# Altium integrated library TI_Logic_Specialty_Logic.IntLib: 2504 symbols (part 6 of 81)
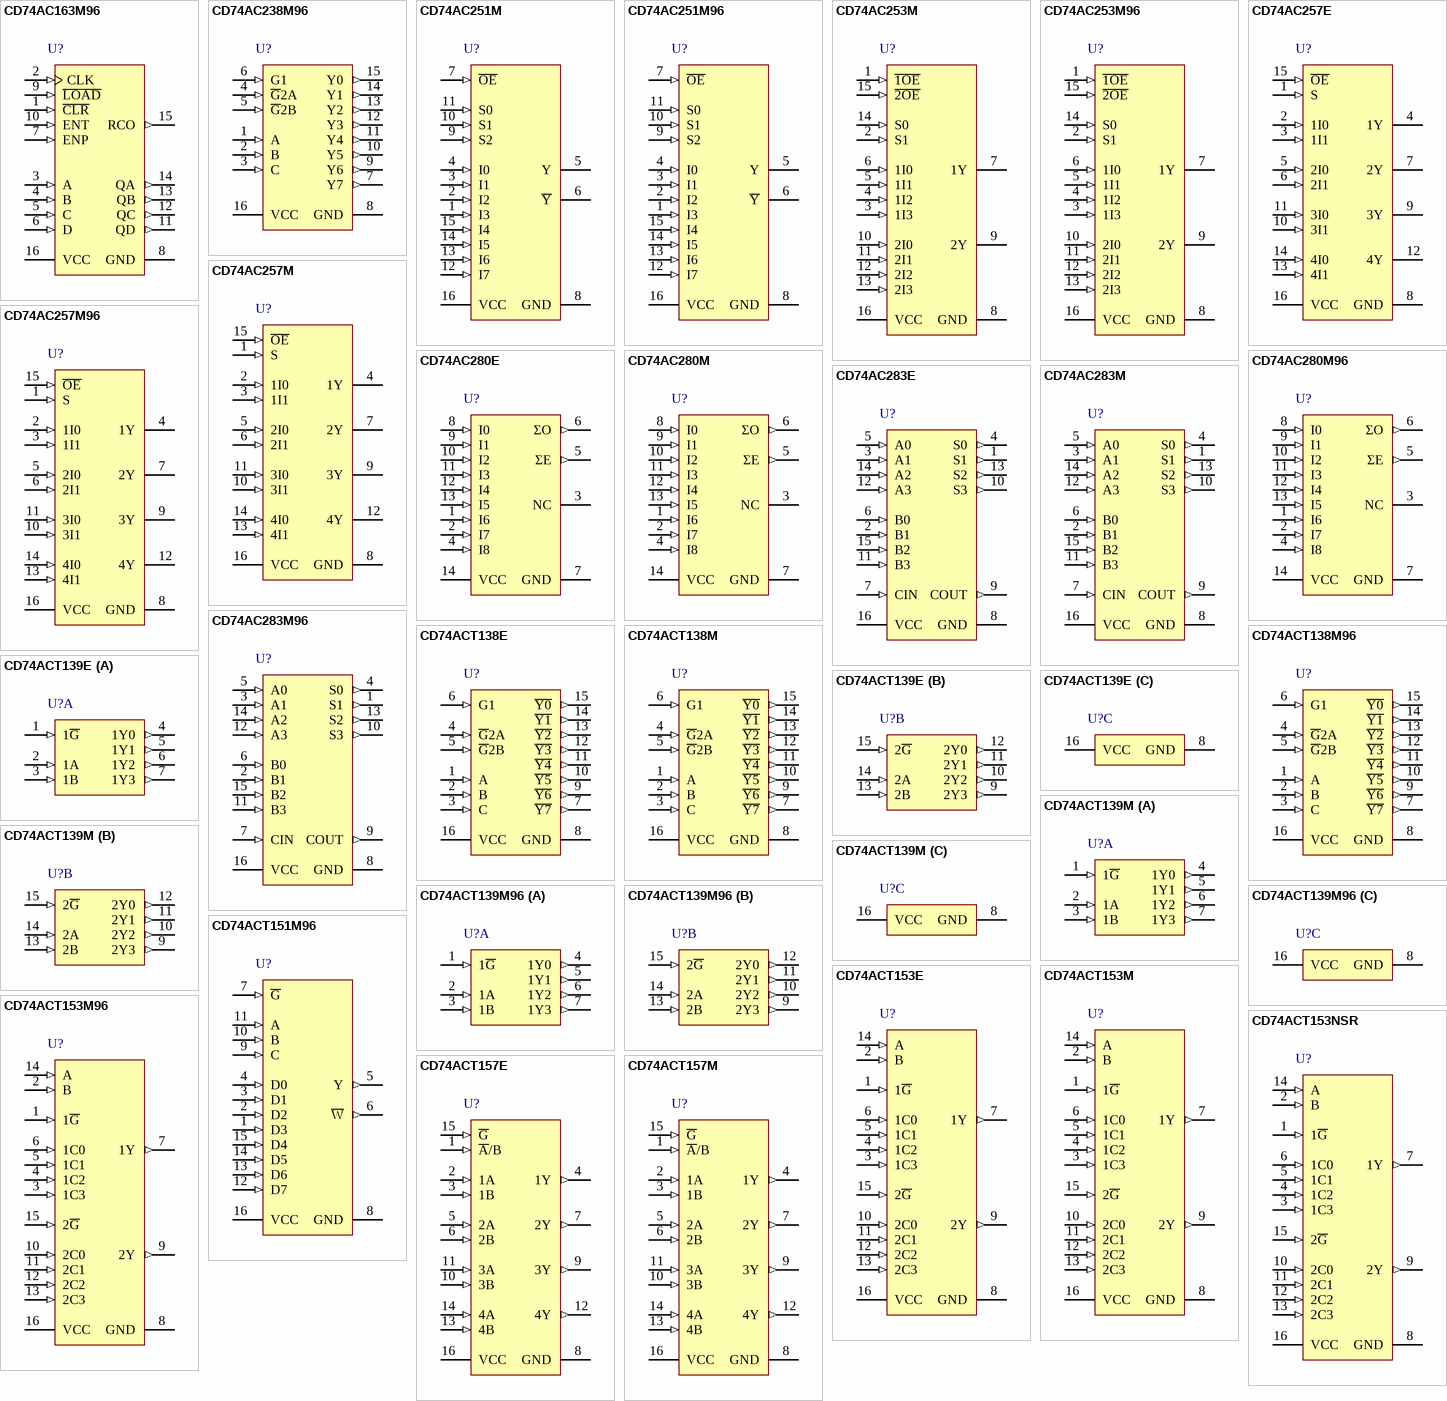
[diagram p109: symbols CD74AC163M96 to CD74ACT157M]

## CD74AC257M
designator U?
Quad 2-Input Non-Inverting Multiplexers with 3-State Outputs, D0016A, TUBE; Generic Part Number: CD74AC257; Manufacturer: Texas Instruments; PartNumber: CD74AC257M; VCC(Min)(V): 1.5; VCC(Max)(V): 5.5; Output Type: CMOS; Function: Encoder/Multiplexer; ICC @ Nom Voltage(Max)(mA): 0.08; Input Type: LVTTL/CMOS; Bits(#): 2; F @ Nom Voltage(Max)(Mhz): 100; Configuration: 2：1; Channels(#): 4; Rating: Catalog; Technology Family: AC; Voltage(Nom)(V): 1.5, 3.3,5; Schmitt Trigger: No; Output Drive (IOL/IOH)(Max)(mA): 24/-24; tpd @ Nom Voltage(Max)(ns): 106,11.8,8.5; DatasheetVersion: SCHS248A; PackageReference: D0016A; Supplier 1: Mouser; Supplier Part Number 1: 595-CD74AC257M; Supplier 2: Digi-Key; Supplier Part Number 2: 296-4243-5-ND; Operating Temperature Range(C): -55 to 125; Type: 3-State Output; Code_JEDEC: MS-012 variation AC; ComponentLink1Description: Manufacturer URL; ComponentLink1URL: http://www.ti.com/; ComponentLink2Description: Datasheet; ComponentLink2URL: http://www.ti.com/lit/ds/symlink/cd74ac257.pdf; ComponentLink3Description: Package Specification; ComponentLink3URL: http://www.ti.com/lit/ml/mpds178g/mpds178g.pdf
footprint D0016A_N (SOIC, 16-Leads, Body 10x4mm, Pitch 1.27mm, IPC Medium Density)
footprint D0016A_M (SOIC, 16-Leads, Body 10x4mm, Pitch 1.27mm, IPC Low Density)
footprint D0016A_L (SOIC, 16-Leads, Body 10x4mm, Pitch 1.27mm, IPC High Density)
pins: 1 S (in), 2 1I0 (in), 3 1I1 (in), 4 1Y (hiz), 5 2I0 (in), 6 2I1 (in), 7 2Y (hiz), 8 GND (power), 9 3Y (hiz), 10 3I1 (in), 11 3I0 (in), 12 4Y (hiz), 13 4I1 (in), 14 4I0 (in), 15 ~{OE} (in), 16 VCC (power)

## CD74AC257M96
designator U?
Quad 2-Input Non-Inverting Multiplexers with 3-State Outputs, D0016A, LARGE T&R; Generic Part Number: CD74AC257; Manufacturer: Texas Instruments; PartNumber: CD74AC257M96; VCC(Min)(V): 1.5; VCC(Max)(V): 5.5; Output Type: CMOS; Function: Encoder/Multiplexer; ICC @ Nom Voltage(Max)(mA): 0.08; Input Type: LVTTL/CMOS; Bits(#): 2; F @ Nom Voltage(Max)(Mhz): 100; Configuration: 2：1; Channels(#): 4; Rating: Catalog; Technology Family: AC; Voltage(Nom)(V): 1.5, 3.3,5; Schmitt Trigger: No; Output Drive (IOL/IOH)(Max)(mA): 24/-24; tpd @ Nom Voltage(Max)(ns): 106,11.8,8.5; DatasheetVersion: SCHS248A; PackageReference: D0016A; Supplier 1: Mouser; Supplier Part Number 1: 595-CD74AC257M96; Supplier 2: Digi-Key; Supplier Part Number 2: 296-31545-2-ND; Supplier 3: Digi-Key; Supplier Part Number 3: 296-31545-1-ND; Supplier 4: Digi-Key; Supplier Part Number 4: 296-31545-6-ND; Operating Temperature Range(C): -55 to 125; Type: 3-State Output; Code_JEDEC: MS-012 variation AC; ComponentLink1Description: Manufacturer URL; ComponentLink1URL: http://www.ti.com/; ComponentLink2Description: Datasheet; ComponentLink2URL: http://www.ti.com/lit/ds/symlink/cd74ac257.pdf; ComponentLink3Description: Package Specification; ComponentLink3URL: http://www.ti.com/lit/ml/mpds178g/mpds178g.pdf
footprint D0016A_N (SOIC, 16-Leads, Body 10x4mm, Pitch 1.27mm, IPC Medium Density)
footprint D0016A_M (SOIC, 16-Leads, Body 10x4mm, Pitch 1.27mm, IPC Low Density)
footprint D0016A_L (SOIC, 16-Leads, Body 10x4mm, Pitch 1.27mm, IPC High Density)
pins: 1 S (in), 2 1I0 (in), 3 1I1 (in), 4 1Y (hiz), 5 2I0 (in), 6 2I1 (in), 7 2Y (hiz), 8 GND (power), 9 3Y (hiz), 10 3I1 (in), 11 3I0 (in), 12 4Y (hiz), 13 4I1 (in), 14 4I0 (in), 15 ~{OE} (in), 16 VCC (power)

## CD74AC280E
designator U?
9-Bit Odd/Even Parity Generator/Checker, N0014A, TUBE; Generic Part Number: CD74AC280; Manufacturer: Texas Instruments; PartNumber: CD74AC280E; VCC(Min)(V): 1.5; VCC(Max)(V): 5.5; Inputs: 9; ICC @ Nom Voltage(Max)(mA): 0.08; Bits(#): 2; F @ Nom Voltage(Max)(Mhz): 100; Rating: Military; Technology Family: AC; Voltage(Nom)(V): 5; Output Drive (IOL/IOH)(Max)(mA): 75/-75; tpd @ Nom Voltage(Max)(ns): 19.1; DatasheetVersion: SCHS250A; PackageReference: N0014A; Supplier 1: Mouser; Supplier Part Number 1: 595-CD74AC280E; Supplier 2: Digi-Key; Supplier Part Number 2: 296-4245-5-ND; Function: Parity; Operating Temperature Range(C): -55 to 125; Type: Other; Code_JEDEC: MS-001; ComponentLink1Description: Manufacturer URL; ComponentLink1URL: http://www.ti.com/; ComponentLink2Description: Datasheet; ComponentLink2URL: http://www.ti.com/lit/ds/symlink/cd74ac280.pdf; ComponentLink3Description: Package Specification; ComponentLink3URL: http://www.ti.com/lit/ml/mpdi002c/mpdi002c.pdf
footprint N0014A (DIP, 14-Leads, Body 19.7x6.6mm, Pitch 2.54mm)
pins: 1 I6 (in), 2 I7 (in), 3 NC, 4 I8 (in), 5 ΣE (out), 6 ΣO (out), 7 GND (power), 8 I0 (in), 9 I1 (in), 10 I2 (in), 11 I3 (in), 12 I4 (in), 13 I5 (in), 14 VCC (power)

## CD74AC280M
designator U?
9-Bit Odd/Even Parity Generator/Checker, D0014A, TUBE; Generic Part Number: CD74AC280; Manufacturer: Texas Instruments; PartNumber: CD74AC280M; VCC(Min)(V): 1.5; VCC(Max)(V): 5.5; Inputs: 9; ICC @ Nom Voltage(Max)(mA): 0.08; Bits(#): 2; F @ Nom Voltage(Max)(Mhz): 100; Rating: Military; Technology Family: AC; Voltage(Nom)(V): 5; Output Drive (IOL/IOH)(Max)(mA): 75/-75; tpd @ Nom Voltage(Max)(ns): 19.1; DatasheetVersion: SCHS250A; PackageReference: D0014A; Supplier 1: Mouser; Supplier Part Number 1: 595-CD74AC280M; Supplier 2: Digi-Key; Supplier Part Number 2: 296-32962-5-ND; Function: Parity; Operating Temperature Range(C): -55 to 125; Type: Other; Code_JEDEC: MS-012; ComponentLink1Description: Manufacturer URL; ComponentLink1URL: http://www.ti.com/; ComponentLink2Description: Datasheet; ComponentLink2URL: http://www.ti.com/lit/ds/symlink/cd74ac280.pdf; ComponentLink3Description: Package Specification; ComponentLink3URL: http://www.ti.com/lit/ml/mpds177g/mpds177g.pdf
footprint D0014A_N (SOIC, 14-Leads, Body 8.75x4mm, Pitch 1.27mm, IPC Medium Density)
footprint D0014A_M (SOIC, 14-Leads, Body 8.75x4mm, Pitch 1.27mm, IPC Low Density)
footprint D0014A_L (SOIC, 14-Leads, Body 8.75x4mm, Pitch 1.27mm, IPC High Density)
pins: 1 I6 (in), 2 I7 (in), 3 NC, 4 I8 (in), 5 ΣE (out), 6 ΣO (out), 7 GND (power), 8 I0 (in), 9 I1 (in), 10 I2 (in), 11 I3 (in), 12 I4 (in), 13 I5 (in), 14 VCC (power)

## CD74AC280M96
designator U?
9-Bit Odd/Even Parity Generator/Checker, D0014A, LARGE T&R; Generic Part Number: CD74AC280; Manufacturer: Texas Instruments; PartNumber: CD74AC280M96; VCC(Min)(V): 1.5; VCC(Max)(V): 5.5; Inputs: 9; ICC @ Nom Voltage(Max)(mA): 0.08; Bits(#): 2; F @ Nom Voltage(Max)(Mhz): 100; Rating: Military; Technology Family: AC; Voltage(Nom)(V): 5; Output Drive (IOL/IOH)(Max)(mA): 75/-75; tpd @ Nom Voltage(Max)(ns): 19.1; DatasheetVersion: SCHS250A; PackageReference: D0014A; Supplier 1: Mouser; Supplier Part Number 1: 595-CD74AC280M96; Supplier 2: Digi-Key; Supplier Part Number 2: 296-4246-2-ND; Supplier 3: Digi-Key; Supplier Part Number 3: 296-4246-1-ND; Supplier 4: Digi-Key; Supplier Part Number 4: 296-4246-6-ND; Function: Parity; Operating Temperature Range(C): -55 to 125; Type: Other; Code_JEDEC: MS-012; ComponentLink1Description: Manufacturer URL; ComponentLink1URL: http://www.ti.com/; ComponentLink2Description: Datasheet; ComponentLink2URL: http://www.ti.com/lit/ds/symlink/cd74ac280.pdf; ComponentLink3Description: Package Specification; ComponentLink3URL: http://www.ti.com/lit/ml/mpds177g/mpds177g.pdf
footprint D0014A_N (SOIC, 14-Leads, Body 8.75x4mm, Pitch 1.27mm, IPC Medium Density)
footprint D0014A_M (SOIC, 14-Leads, Body 8.75x4mm, Pitch 1.27mm, IPC Low Density)
footprint D0014A_L (SOIC, 14-Leads, Body 8.75x4mm, Pitch 1.27mm, IPC High Density)
pins: 1 I6 (in), 2 I7 (in), 3 NC, 4 I8 (in), 5 ΣE (out), 6 ΣO (out), 7 GND (power), 8 I0 (in), 9 I1 (in), 10 I2 (in), 11 I3 (in), 12 I4 (in), 13 I5 (in), 14 VCC (power)

## CD74AC283E
designator U?
4-Bit Binary Full Adder with Fast Carry, N0016A, TUBE; Generic Part Number: CD74AC283; Manufacturer: Texas Instruments; PartNumber: CD74AC283E; VCC(Min)(V): 1.5; VCC(Max)(V): 5.5; Output Type: CMOS; Inputs: 9; Function: Arithmetic; ICC @ Nom Voltage(Max)(mA): 0.08; Input Type: LVTTL/CMOS; Bits(#): 4; F @ Nom Voltage(Max)(Mhz): 100; Rating: Catalog; Technology Family: AC; Voltage(Nom)(V): 3.3,5; Schmitt Trigger: No; Output Drive (IOL/IOH)(Max)(mA): 75/-75; tpd @ Nom Voltage(Max)(ns): 16; DatasheetVersion: SCHS251D; PackageReference: N0016A; Supplier 1: Mouser; Supplier Part Number 1: 595-CD74AC283E; Supplier 2: Digi-Key; Supplier Part Number 2: 296-32963-5-ND; Operating Temperature Range(C): -55 to 125; Type: Binary; Code_JEDEC: MS-001; ComponentLink1Description: Manufacturer URL; ComponentLink1URL: http://www.ti.com/; ComponentLink2Description: Datasheet; ComponentLink2URL: http://www.ti.com/lit/ds/symlink/cd74ac283.pdf; ComponentLink3Description: Package Specification; ComponentLink3URL: http://www.ti.com/lit/ml/mpdi002c/mpdi002c.pdf
footprint N0016A (DIP, 16-Leads, Body 19.7x6.6mm, Pitch 2.54mm)
pins: 1 S1 (out), 2 B1 (in), 3 A1 (in), 4 S0 (out), 5 A0 (in), 6 B0 (in), 7 CIN (in), 8 GND (power), 9 COUT (out), 10 S3 (out), 11 B3 (in), 12 A3 (in), 13 S2 (out), 14 A2 (in), 15 B2 (in), 16 VCC (power)

## CD74AC283M
designator U?
4-Bit Binary Full Adder with Fast Carry, D0016A, TUBE; Generic Part Number: CD74AC283; Manufacturer: Texas Instruments; PartNumber: CD74AC283M; VCC(Min)(V): 1.5; VCC(Max)(V): 5.5; Output Type: CMOS; Inputs: 9; Function: Arithmetic; ICC @ Nom Voltage(Max)(mA): 0.08; Input Type: LVTTL/CMOS; Bits(#): 4; F @ Nom Voltage(Max)(Mhz): 100; Rating: Catalog; Technology Family: AC; Voltage(Nom)(V): 3.3,5; Schmitt Trigger: No; Output Drive (IOL/IOH)(Max)(mA): 75/-75; tpd @ Nom Voltage(Max)(ns): 16; DatasheetVersion: SCHS251D; PackageReference: D0016A; Supplier 1: Mouser; Supplier Part Number 1: 595-CD74AC283M; Supplier 2: Digi-Key; Supplier Part Number 2: 296-32964-5-ND; Operating Temperature Range(C): -55 to 125; Type: Binary; Code_JEDEC: MS-012 variation AC; ComponentLink1Description: Manufacturer URL; ComponentLink1URL: http://www.ti.com/; ComponentLink2Description: Datasheet; ComponentLink2URL: http://www.ti.com/lit/ds/symlink/cd74ac283.pdf; ComponentLink3Description: Package Specification; ComponentLink3URL: http://www.ti.com/lit/ml/mpds178g/mpds178g.pdf
footprint D0016A_N (SOIC, 16-Leads, Body 10x4mm, Pitch 1.27mm, IPC Medium Density)
footprint D0016A_M (SOIC, 16-Leads, Body 10x4mm, Pitch 1.27mm, IPC Low Density)
footprint D0016A_L (SOIC, 16-Leads, Body 10x4mm, Pitch 1.27mm, IPC High Density)
pins: 1 S1 (out), 2 B1 (in), 3 A1 (in), 4 S0 (out), 5 A0 (in), 6 B0 (in), 7 CIN (in), 8 GND (power), 9 COUT (out), 10 S3 (out), 11 B3 (in), 12 A3 (in), 13 S2 (out), 14 A2 (in), 15 B2 (in), 16 VCC (power)

## CD74AC283M96
designator U?
4-Bit Binary Full Adder with Fast Carry, D0016A, LARGE T&R; Generic Part Number: CD74AC283; Manufacturer: Texas Instruments; PartNumber: CD74AC283M96; VCC(Min)(V): 1.5; VCC(Max)(V): 5.5; Output Type: CMOS; Inputs: 9; Function: Arithmetic; ICC @ Nom Voltage(Max)(mA): 0.08; Input Type: LVTTL/CMOS; Bits(#): 4; F @ Nom Voltage(Max)(Mhz): 100; Rating: Catalog; Technology Family: AC; Voltage(Nom)(V): 3.3,5; Schmitt Trigger: No; Output Drive (IOL/IOH)(Max)(mA): 75/-75; tpd @ Nom Voltage(Max)(ns): 16; DatasheetVersion: SCHS251D; PackageReference: D0016A; Supplier 1: Mouser; Supplier Part Number 1: 595-CD74AC283M96; Supplier 2: Digi-Key; Supplier Part Number 2: CD74AC283M96-ND; Operating Temperature Range(C): -55 to 125; Type: Binary; Code_JEDEC: MS-012 variation AC; ComponentLink1Description: Manufacturer URL; ComponentLink1URL: http://www.ti.com/; ComponentLink2Description: Datasheet; ComponentLink2URL: http://www.ti.com/lit/ds/symlink/cd74ac283.pdf; ComponentLink3Description: Package Specification; ComponentLink3URL: http://www.ti.com/lit/ml/mpds178g/mpds178g.pdf
footprint D0016A_N (SOIC, 16-Leads, Body 10x4mm, Pitch 1.27mm, IPC Medium Density)
footprint D0016A_M (SOIC, 16-Leads, Body 10x4mm, Pitch 1.27mm, IPC Low Density)
footprint D0016A_L (SOIC, 16-Leads, Body 10x4mm, Pitch 1.27mm, IPC High Density)
pins: 1 S1 (out), 2 B1 (in), 3 A1 (in), 4 S0 (out), 5 A0 (in), 6 B0 (in), 7 CIN (in), 8 GND (power), 9 COUT (out), 10 S3 (out), 11 B3 (in), 12 A3 (in), 13 S2 (out), 14 A2 (in), 15 B2 (in), 16 VCC (power)

## CD74ACT138E
designator U?
3-Line to 8-Line Inverting Decoders/Demultiplexers, N0016A, TUBE; Generic Part Number: CD74ACT138; Manufacturer: Texas Instruments; PartNumber: CD74ACT138E; VCC(Min)(V): 4.5; VCC(Max)(V): 5.5; Output Type: CMOS; Function: Decoder/Demultiplexer; ICC @ Nom Voltage(Max)(mA): 0.08; Input Type: TTL; Bits(#): 8; F @ Nom Voltage(Max)(Mhz): 90; Configuration: 3：8; Channels(#): 1; Rating: Catalog; Technology Family: ACT; Voltage(Nom)(V): 5; Schmitt Trigger: No; Output Drive (IOL/IOH)(Max)(mA): 24/-24; tpd @ Nom Voltage(Max)(ns): 11; DatasheetVersion: SCHS329A; PackageReference: N0016A; Supplier 1: Mouser; Supplier Part Number 1: 595-CD74ACT138E; Supplier 2: Digi-Key; Supplier Part Number 2: 296-14490-5-ND; Operating Temperature Range(C): -55 to 125; Type: Standard; Code_JEDEC: MS-001; ComponentLink1Description: Manufacturer URL; ComponentLink1URL: http://www.ti.com/; ComponentLink2Description: Datasheet; ComponentLink2URL: http://www.ti.com/lit/ds/symlink/cd74act138.pdf; ComponentLink3Description: Package Specification; ComponentLink3URL: http://www.ti.com/lit/ml/mpdi002c/mpdi002c.pdf
footprint N0016A (DIP, 16-Leads, Body 19.7x6.6mm, Pitch 2.54mm)
pins: 1 A (in), 2 B (in), 3 C (in), 4 ~{G}2A (in), 5 ~{G}2B (in), 6 G1 (in), 7 ~{Y7} (out), 8 GND (power), 9 ~{Y6} (out), 10 ~{Y5} (out), 11 ~{Y4} (out), 12 ~{Y3} (out), 13 ~{Y2} (out), 14 ~{Y1} (out), 15 ~{Y0} (out), 16 VCC (power)

## CD74ACT138M
designator U?
3-Line to 8-Line Inverting Decoders/Demultiplexers, D0016A, TUBE; Generic Part Number: CD74ACT138; Manufacturer: Texas Instruments; PartNumber: CD74ACT138M; VCC(Min)(V): 4.5; VCC(Max)(V): 5.5; Output Type: CMOS; Function: Decoder/Demultiplexer; ICC @ Nom Voltage(Max)(mA): 0.08; Input Type: TTL; Bits(#): 8; F @ Nom Voltage(Max)(Mhz): 90; Configuration: 3：8; Channels(#): 1; Rating: Catalog; Technology Family: ACT; Voltage(Nom)(V): 5; Schmitt Trigger: No; Output Drive (IOL/IOH)(Max)(mA): 24/-24; tpd @ Nom Voltage(Max)(ns): 11; DatasheetVersion: SCHS329A; PackageReference: D0016A; Supplier 1: Mouser; Supplier Part Number 1: 595-CD74ACT138M; Supplier 2: Digi-Key; Supplier Part Number 2: 296-4255-5-ND; Operating Temperature Range(C): -55 to 125; Type: Standard; Code_JEDEC: MS-012 variation AC; ComponentLink1Description: Manufacturer URL; ComponentLink1URL: http://www.ti.com/; ComponentLink2Description: Datasheet; ComponentLink2URL: http://www.ti.com/lit/ds/symlink/cd74act138.pdf; ComponentLink3Description: Package Specification; ComponentLink3URL: http://www.ti.com/lit/ml/mpds178g/mpds178g.pdf
footprint D0016A_N (SOIC, 16-Leads, Body 10x4mm, Pitch 1.27mm, IPC Medium Density)
footprint D0016A_M (SOIC, 16-Leads, Body 10x4mm, Pitch 1.27mm, IPC Low Density)
footprint D0016A_L (SOIC, 16-Leads, Body 10x4mm, Pitch 1.27mm, IPC High Density)
pins: 1 A (in), 2 B (in), 3 C (in), 4 ~{G}2A (in), 5 ~{G}2B (in), 6 G1 (in), 7 ~{Y7} (out), 8 GND (power), 9 ~{Y6} (out), 10 ~{Y5} (out), 11 ~{Y4} (out), 12 ~{Y3} (out), 13 ~{Y2} (out), 14 ~{Y1} (out), 15 ~{Y0} (out), 16 VCC (power)

## CD74ACT138M96
designator U?
3-Line to 8-Line Inverting Decoders/Demultiplexers, D0016A, LARGE T&R; Generic Part Number: CD74ACT138; Manufacturer: Texas Instruments; PartNumber: CD74ACT138M96; VCC(Min)(V): 4.5; VCC(Max)(V): 5.5; Output Type: CMOS; Function: Decoder/Demultiplexer; ICC @ Nom Voltage(Max)(mA): 0.08; Input Type: TTL; Bits(#): 8; F @ Nom Voltage(Max)(Mhz): 90; Configuration: 3：8; Channels(#): 1; Rating: Catalog; Technology Family: ACT; Voltage(Nom)(V): 5; Schmitt Trigger: No; Output Drive (IOL/IOH)(Max)(mA): 24/-24; tpd @ Nom Voltage(Max)(ns): 11; DatasheetVersion: SCHS329A; PackageReference: D0016A; Supplier 1: Mouser; Supplier Part Number 1: 595-CD74ACT138M96; Supplier 2: Digi-Key; Supplier Part Number 2: 296-14491-2-ND; Supplier 3: Digi-Key; Supplier Part Number 3: 296-14491-1-ND; Supplier 4: Digi-Key; Supplier Part Number 4: 296-14491-6-ND; Operating Temperature Range(C): -55 to 125; Type: Standard; Code_JEDEC: MS-012 variation AC; ComponentLink1Description: Manufacturer URL; ComponentLink1URL: http://www.ti.com/; ComponentLink2Description: Datasheet; ComponentLink2URL: http://www.ti.com/lit/ds/symlink/cd74act138.pdf; ComponentLink3Description: Package Specification; ComponentLink3URL: http://www.ti.com/lit/ml/mpds178g/mpds178g.pdf
footprint D0016A_N (SOIC, 16-Leads, Body 10x4mm, Pitch 1.27mm, IPC Medium Density)
footprint D0016A_M (SOIC, 16-Leads, Body 10x4mm, Pitch 1.27mm, IPC Low Density)
footprint D0016A_L (SOIC, 16-Leads, Body 10x4mm, Pitch 1.27mm, IPC High Density)
pins: 1 A (in), 2 B (in), 3 C (in), 4 ~{G}2A (in), 5 ~{G}2B (in), 6 G1 (in), 7 ~{Y7} (out), 8 GND (power), 9 ~{Y6} (out), 10 ~{Y5} (out), 11 ~{Y4} (out), 12 ~{Y3} (out), 13 ~{Y2} (out), 14 ~{Y1} (out), 15 ~{Y0} (out), 16 VCC (power)

## CD74ACT139E
designator U?
Dual 2-to-4 Line Decoder/Demultiplexer, N0016A, TUBE; Generic Part Number: CD74ACT139; Manufacturer: Texas Instruments; PartNumber: CD74ACT139E; VCC(Min)(V): 4.5; VCC(Max)(V): 5.5; ICC @ Nom Voltage(Max)(mA): 0.08; F @ Nom Voltage(Max)(Mhz): 90; Configuration: 2：4; Channels(#): 2; Rating: Military; Technology Family: ACT; Voltage(Nom)(V): 5; Schmitt Trigger: No; Output Drive (IOL/IOH)(Max)(mA): 24/-24; tpd @ Nom Voltage(Max)(ns): 10.5; DatasheetVersion: SCHS337; PackageReference: N0016A; Supplier 1: Mouser; Supplier Part Number 1: 595-CD74ACT139E; Supplier 2: Digi-Key; Supplier Part Number 2: 296-4256-5-ND; Function: Decoder/Demultiplexer; Operating Temperature Range(C): -55 to 125; Type: Standard; Code_JEDEC: MS-001; ComponentLink1Description: Manufacturer URL; ComponentLink1URL: http://www.ti.com/; ComponentLink2Description: Datasheet; ComponentLink2URL: http://www.ti.com/lit/ds/symlink/cd74act139.pdf; ComponentLink3Description: Package Specification; ComponentLink3URL: http://www.ti.com/lit/ml/mpdi002c/mpdi002c.pdf
footprint N0016A (DIP, 16-Leads, Body 19.7x6.6mm, Pitch 2.54mm)
part A pins: 1 1~{G} (in), 2 1A (in), 3 1B (in), 4 1Y0 (out), 5 1Y1 (out), 6 1Y2 (out), 7 1Y3 (out)
part B pins: 9 2Y3 (out), 10 2Y2 (out), 11 2Y1 (out), 12 2Y0 (out), 13 2B (in), 14 2A (in), 15 2~{G} (in)
part C pins: 8 GND (power), 16 VCC (power)

## CD74ACT139M
designator U?
Dual 2-to-4 Line Decoder/Demultiplexer, D0016A, TUBE; Generic Part Number: CD74ACT139; Manufacturer: Texas Instruments; PartNumber: CD74ACT139M; VCC(Min)(V): 4.5; VCC(Max)(V): 5.5; ICC @ Nom Voltage(Max)(mA): 0.08; F @ Nom Voltage(Max)(Mhz): 90; Configuration: 2：4; Channels(#): 2; Rating: Military; Technology Family: ACT; Voltage(Nom)(V): 5; Schmitt Trigger: No; Output Drive (IOL/IOH)(Max)(mA): 24/-24; tpd @ Nom Voltage(Max)(ns): 10.5; DatasheetVersion: SCHS337; PackageReference: D0016A; Supplier 1: Mouser; Supplier Part Number 1: 595-CD74ACT139M; Supplier 2: Digi-Key; Supplier Part Number 2: 296-4257-5-ND; Function: Decoder/Demultiplexer; Operating Temperature Range(C): -55 to 125; Type: Standard; Code_JEDEC: MS-012 variation AC; ComponentLink1Description: Manufacturer URL; ComponentLink1URL: http://www.ti.com/; ComponentLink2Description: Datasheet; ComponentLink2URL: http://www.ti.com/lit/ds/symlink/cd74act139.pdf; ComponentLink3Description: Package Specification; ComponentLink3URL: http://www.ti.com/lit/ml/mpds178g/mpds178g.pdf
footprint D0016A_N (SOIC, 16-Leads, Body 10x4mm, Pitch 1.27mm, IPC Medium Density)
footprint D0016A_M (SOIC, 16-Leads, Body 10x4mm, Pitch 1.27mm, IPC Low Density)
footprint D0016A_L (SOIC, 16-Leads, Body 10x4mm, Pitch 1.27mm, IPC High Density)
part A pins: 1 1~{G} (in), 2 1A (in), 3 1B (in), 4 1Y0 (out), 5 1Y1 (out), 6 1Y2 (out), 7 1Y3 (out)
part B pins: 9 2Y3 (out), 10 2Y2 (out), 11 2Y1 (out), 12 2Y0 (out), 13 2B (in), 14 2A (in), 15 2~{G} (in)
part C pins: 8 GND (power), 16 VCC (power)

## CD74ACT139M96
designator U?
Dual 2-to-4 Line Decoder/Demultiplexer, D0016A, LARGE T&R; Generic Part Number: CD74ACT139; Manufacturer: Texas Instruments; PartNumber: CD74ACT139M96; VCC(Min)(V): 4.5; VCC(Max)(V): 5.5; ICC @ Nom Voltage(Max)(mA): 0.08; F @ Nom Voltage(Max)(Mhz): 90; Configuration: 2：4; Channels(#): 2; Rating: Military; Technology Family: ACT; Voltage(Nom)(V): 5; Schmitt Trigger: No; Output Drive (IOL/IOH)(Max)(mA): 24/-24; tpd @ Nom Voltage(Max)(ns): 10.5; DatasheetVersion: SCHS337; PackageReference: D0016A; Supplier 1: Mouser; Supplier Part Number 1: 595-CD74ACT139M96; Supplier 2: Digi-Key; Supplier Part Number 2: 296-31550-2-ND; Supplier 3: Digi-Key; Supplier Part Number 3: 296-31550-1-ND; Supplier 4: Digi-Key; Supplier Part Number 4: 296-31550-6-ND; Function: Decoder/Demultiplexer; Operating Temperature Range(C): -55 to 125; Type: Standard; Code_JEDEC: MS-012 variation AC; ComponentLink1Description: Manufacturer URL; ComponentLink1URL: http://www.ti.com/; ComponentLink2Description: Datasheet; ComponentLink2URL: http://www.ti.com/lit/ds/symlink/cd74act139.pdf; ComponentLink3Description: Package Specification; ComponentLink3URL: http://www.ti.com/lit/ml/mpds178g/mpds178g.pdf
footprint D0016A_N (SOIC, 16-Leads, Body 10x4mm, Pitch 1.27mm, IPC Medium Density)
footprint D0016A_M (SOIC, 16-Leads, Body 10x4mm, Pitch 1.27mm, IPC Low Density)
footprint D0016A_L (SOIC, 16-Leads, Body 10x4mm, Pitch 1.27mm, IPC High Density)
part A pins: 1 1~{G} (in), 2 1A (in), 3 1B (in), 4 1Y0 (out), 5 1Y1 (out), 6 1Y2 (out), 7 1Y3 (out)
part B pins: 9 2Y3 (out), 10 2Y2 (out), 11 2Y1 (out), 12 2Y0 (out), 13 2B (in), 14 2A (in), 15 2~{G} (in)
part C pins: 8 GND (power), 16 VCC (power)

## CD74ACT151M96
designator U?
8-Input Multiplexer, D0016A, LARGE T&R; Generic Part Number: CD74ACT151; Manufacturer: Texas Instruments; PartNumber: CD74ACT151M96; VCC(Min)(V): 4.5; VCC(Max)(V): 5.5; Output Type: CMOS; Function: Encoder/Multiplexer; ICC @ Nom Voltage(Max)(mA): 0.08; Input Type: TTL; Bits(#): 8; F @ Nom Voltage(Max)(Mhz): 90; Configuration: 8：1; Channels(#): 1; Rating: Catalog; Technology Family: ACT; Voltage(Nom)(V): 5; Schmitt Trigger: No; Output Drive (IOL/IOH)(Max)(mA): 24/-24; tpd @ Nom Voltage(Max)(ns): 14.1; DatasheetVersion: SCHS338; PackageReference: D0016A; Supplier 1: Mouser; Supplier Part Number 1: 595-CD74ACT151M96; Supplier 2: Digi-Key; Supplier Part Number 2: 296-12766-2-ND; Supplier 3: Digi-Key; Supplier Part Number 3: 296-12766-1-ND; Supplier 4: Digi-Key; Supplier Part Number 4: 296-12766-6-ND; Operating Temperature Range(C): -55 to 125; Type: Standard; Code_JEDEC: MS-012 variation AC; ComponentLink1Description: Manufacturer URL; ComponentLink1URL: http://www.ti.com/; ComponentLink2Description: Datasheet; ComponentLink2URL: http://www.ti.com/lit/ds/symlink/cd74act151.pdf; ComponentLink3Description: Package Specification; ComponentLink3URL: http://www.ti.com/lit/ml/mpds178g/mpds178g.pdf
footprint D0016A_N (SOIC, 16-Leads, Body 10x4mm, Pitch 1.27mm, IPC Medium Density)
footprint D0016A_M (SOIC, 16-Leads, Body 10x4mm, Pitch 1.27mm, IPC Low Density)
footprint D0016A_L (SOIC, 16-Leads, Body 10x4mm, Pitch 1.27mm, IPC High Density)
pins: 1 D3 (in), 2 D2 (in), 3 D1 (in), 4 D0 (in), 5 Y (out), 6 ~{W} (out), 7 ~{G} (in), 8 GND (power), 9 C (in), 10 B (in), 11 A (in), 12 D7 (in), 13 D6 (in), 14 D5 (in), 15 D4 (in), 16 VCC (power)

## CD74ACT153E
designator U?
Dual 4-Input Multiplexers, N0016A, TUBE; Generic Part Number: CD74ACT153; Manufacturer: Texas Instruments; PartNumber: CD74ACT153E; VCC(Min)(V): 4.5; VCC(Max)(V): 5.5; Output Type: CMOS; Function: Encoder/Multiplexer; ICC @ Nom Voltage(Max)(mA): 0.08; Input Type: TTL; F @ Nom Voltage(Max)(Mhz): 90; Configuration: 4：1; Channels(#): `; Rating: Catalog; Technology Family: ACT; Voltage(Nom)(V): 5; Schmitt Trigger: No; Output Drive (IOL/IOH)(Max)(mA): 24/-24; tpd @ Nom Voltage(Max)(ns): 20; DatasheetVersion: SCHS339; PackageReference: N0016A; Supplier 1: Mouser; Supplier Part Number 1: 595-CD74ACT153E; Supplier 2: Digi-Key; Supplier Part Number 2: 296-4258-5-ND; Operating Temperature Range(C): -55 to 125; Type: Standard; Code_JEDEC: MS-001; ComponentLink1Description: Manufacturer URL; ComponentLink1URL: http://www.ti.com/; ComponentLink2Description: Datasheet; ComponentLink2URL: http://www.ti.com/lit/ds/symlink/cd74act153.pdf; ComponentLink3Description: Package Specification; ComponentLink3URL: http://www.ti.com/lit/ml/mpdi002c/mpdi002c.pdf
footprint N0016A (DIP, 16-Leads, Body 19.7x6.6mm, Pitch 2.54mm)
pins: 1 1~{G} (in), 2 B (in), 3 1C3 (in), 4 1C2 (in), 5 1C1 (in), 6 1C0 (in), 7 1Y (out), 8 GND (power), 9 2Y (out), 10 2C0 (in), 11 2C1 (in), 12 2C2 (in), 13 2C3 (in), 14 A (in), 15 2~{G} (in), 16 VCC (power)

## CD74ACT153M
designator U?
Dual 4-Input Multiplexers, D0016A, TUBE; Generic Part Number: CD74ACT153; Manufacturer: Texas Instruments; PartNumber: CD74ACT153M; VCC(Min)(V): 4.5; VCC(Max)(V): 5.5; Output Type: CMOS; Function: Encoder/Multiplexer; ICC @ Nom Voltage(Max)(mA): 0.08; Input Type: TTL; F @ Nom Voltage(Max)(Mhz): 90; Configuration: 4：1; Channels(#): `; Rating: Catalog; Technology Family: ACT; Voltage(Nom)(V): 5; Schmitt Trigger: No; Output Drive (IOL/IOH)(Max)(mA): 24/-24; tpd @ Nom Voltage(Max)(ns): 20; DatasheetVersion: SCHS339; PackageReference: D0016A; Supplier 1: Mouser; Supplier Part Number 1: 595-CD74ACT153M; Supplier 2: Digi-Key; Supplier Part Number 2: 296-4259-5-ND; Operating Temperature Range(C): -55 to 125; Type: Standard; Code_JEDEC: MS-012 variation AC; ComponentLink1Description: Manufacturer URL; ComponentLink1URL: http://www.ti.com/; ComponentLink2Description: Datasheet; ComponentLink2URL: http://www.ti.com/lit/ds/symlink/cd74act153.pdf; ComponentLink3Description: Package Specification; ComponentLink3URL: http://www.ti.com/lit/ml/mpds178g/mpds178g.pdf
footprint D0016A_N (SOIC, 16-Leads, Body 10x4mm, Pitch 1.27mm, IPC Medium Density)
footprint D0016A_M (SOIC, 16-Leads, Body 10x4mm, Pitch 1.27mm, IPC Low Density)
footprint D0016A_L (SOIC, 16-Leads, Body 10x4mm, Pitch 1.27mm, IPC High Density)
pins: 1 1~{G} (in), 2 B (in), 3 1C3 (in), 4 1C2 (in), 5 1C1 (in), 6 1C0 (in), 7 1Y (out), 8 GND (power), 9 2Y (out), 10 2C0 (in), 11 2C1 (in), 12 2C2 (in), 13 2C3 (in), 14 A (in), 15 2~{G} (in), 16 VCC (power)

## CD74ACT153M96
designator U?
Dual 4-Input Multiplexers, D0016A, LARGE T&R; Generic Part Number: CD74ACT153; Manufacturer: Texas Instruments; PartNumber: CD74ACT153M96; VCC(Min)(V): 4.5; VCC(Max)(V): 5.5; Output Type: CMOS; Function: Encoder/Multiplexer; ICC @ Nom Voltage(Max)(mA): 0.08; Input Type: TTL; F @ Nom Voltage(Max)(Mhz): 90; Configuration: 4：1; Channels(#): `; Rating: Catalog; Technology Family: ACT; Voltage(Nom)(V): 5; Schmitt Trigger: No; Output Drive (IOL/IOH)(Max)(mA): 24/-24; tpd @ Nom Voltage(Max)(ns): 20; DatasheetVersion: SCHS339; PackageReference: D0016A; Supplier 1: Mouser; Supplier Part Number 1: 595-CD74ACT153M96; Supplier 2: Digi-Key; Supplier Part Number 2: CD74ACT153M96-ND; Operating Temperature Range(C): -55 to 125; Type: Standard; Code_JEDEC: MS-012 variation AC; ComponentLink1Description: Manufacturer URL; ComponentLink1URL: http://www.ti.com/; ComponentLink2Description: Datasheet; ComponentLink2URL: http://www.ti.com/lit/ds/symlink/cd74act153.pdf; ComponentLink3Description: Package Specification; ComponentLink3URL: http://www.ti.com/lit/ml/mpds178g/mpds178g.pdf
footprint D0016A_N (SOIC, 16-Leads, Body 10x4mm, Pitch 1.27mm, IPC Medium Density)
footprint D0016A_M (SOIC, 16-Leads, Body 10x4mm, Pitch 1.27mm, IPC Low Density)
footprint D0016A_L (SOIC, 16-Leads, Body 10x4mm, Pitch 1.27mm, IPC High Density)
pins: 1 1~{G} (in), 2 B (in), 3 1C3 (in), 4 1C2 (in), 5 1C1 (in), 6 1C0 (in), 7 1Y (out), 8 GND (power), 9 2Y (out), 10 2C0 (in), 11 2C1 (in), 12 2C2 (in), 13 2C3 (in), 14 A (in), 15 2~{G} (in), 16 VCC (power)

## CD74ACT153NSR
designator U?
Dual 4-Input Multiplexers, NS0016A, LARGE T&R; Generic Part Number: CD74ACT153; Manufacturer: Texas Instruments; PartNumber: CD74ACT153NSR; VCC(Min)(V): 4.5; VCC(Max)(V): 5.5; Output Type: CMOS; Function: Encoder/Multiplexer; ICC @ Nom Voltage(Max)(mA): 0.08; Input Type: TTL; F @ Nom Voltage(Max)(Mhz): 90; Configuration: 4：1; Channels(#): `; Rating: Catalog; Technology Family: ACT; Voltage(Nom)(V): 5; Schmitt Trigger: No; Output Drive (IOL/IOH)(Max)(mA): 24/-24; tpd @ Nom Voltage(Max)(ns): 20; DatasheetVersion: SCHS339; PackageReference: NS0016A; Supplier 1: Mouser; Supplier Part Number 1: 595-CD74ACT153NSR; Supplier 2: Digi-Key; Supplier Part Number 2: 296-18400-2-ND; Supplier 3: Digi-Key; Supplier Part Number 3: 296-18400-1-ND; Supplier 4: Digi-Key; Supplier Part Number 4: 296-18400-6-ND; Operating Temperature Range(C): -55 to 125; Type: Standard; ComponentLink1Description: Manufacturer URL; ComponentLink1URL: http://www.ti.com/; ComponentLink2Description: Datasheet; ComponentLink2URL: http://www.ti.com/lit/ds/symlink/cd74act153.pdf; ComponentLink3Description: Package Specification; ComponentLink3URL: http://www.ti.com/lit/ml/msop002a/msop002a.pdf
footprint NS0016A_N (SOIC,16-Leads,Body 10.5x5.6mm,Pitch 1.27mm,IPC Medium Density)
footprint NS0016A_M (SOIC,16-Leads,Body 10.5x5.6mm,Pitch 1.27mm,IPC Low Density)
footprint NS0016A_L (SOIC,16-Leads,Body 10.5x5.6mm,Pitch 1.27mm,IPC High Density)
pins: 1 1~{G} (in), 2 B (in), 3 1C3 (in), 4 1C2 (in), 5 1C1 (in), 6 1C0 (in), 7 1Y (out), 8 GND (power), 9 2Y (out), 10 2C0 (in), 11 2C1 (in), 12 2C2 (in), 13 2C3 (in), 14 A (in), 15 2~{G} (in), 16 VCC (power)

## CD74ACT157E
designator U?
Quad Non-Inverting 2-Input Multiplexers, N0016A, TUBE; Generic Part Number: CD74ACT157; Manufacturer: Texas Instruments; PartNumber: CD74ACT157E; VCC(Min)(V): 4.5; VCC(Max)(V): 5.5; Output Type: CMOS; Function: Encoder/Multiplexer; ICC @ Nom Voltage(Max)(mA): 0.08; Input Type: TTL; Bits(#): 2; F @ Nom Voltage(Max)(Mhz): 90; Configuration: 2：1; Channels(#): 4; Rating: Catalog; Technology Family: ACT; Voltage(Nom)(V): 5; Schmitt Trigger: No; Output Drive (IOL/IOH)(Max)(mA): 24/-24; tpd @ Nom Voltage(Max)(ns): 8.6; DatasheetVersion: SCHS340B; PackageReference: N0016A; Supplier 1: Mouser; Supplier Part Number 1: 595-CD74ACT157E; Supplier 2: Digi-Key; Supplier Part Number 2: 296-4260-5-ND; Operating Temperature Range(C): -55 to 125; Type: Standard; Code_JEDEC: MS-001; ComponentLink1Description: Manufacturer URL; ComponentLink1URL: http://www.ti.com/; ComponentLink2Description: Datasheet; ComponentLink2URL: http://www.ti.com/lit/ds/symlink/cd74act157.pdf; ComponentLink3Description: Package Specification; ComponentLink3URL: http://www.ti.com/lit/ml/mpdi002c/mpdi002c.pdf
footprint N0016A (DIP, 16-Leads, Body 19.7x6.6mm, Pitch 2.54mm)
pins: 1 ~{A}/B (in), 2 1A (in), 3 1B (in), 4 1Y (out), 5 2A (in), 6 2B (in), 7 2Y (out), 8 GND (power), 9 3Y (out), 10 3B (in), 11 3A (in), 12 4Y (out), 13 4B (in), 14 4A (in), 15 ~{G} (in), 16 VCC (power)

## CD74ACT157M
designator U?
Quad Non-Inverting 2-Input Multiplexers, D0016A, TUBE; Generic Part Number: CD74ACT157; Manufacturer: Texas Instruments; PartNumber: CD74ACT157M; VCC(Min)(V): 4.5; VCC(Max)(V): 5.5; Output Type: CMOS; Function: Encoder/Multiplexer; ICC @ Nom Voltage(Max)(mA): 0.08; Input Type: TTL; Bits(#): 2; F @ Nom Voltage(Max)(Mhz): 90; Configuration: 2：1; Channels(#): 4; Rating: Catalog; Technology Family: ACT; Voltage(Nom)(V): 5; Schmitt Trigger: No; Output Drive (IOL/IOH)(Max)(mA): 24/-24; tpd @ Nom Voltage(Max)(ns): 8.6; DatasheetVersion: SCHS340B; PackageReference: D0016A; Supplier 1: Mouser; Supplier Part Number 1: 595-CD74ACT157M; Supplier 2: Digi-Key; Supplier Part Number 2: 296-4261-5-ND; Operating Temperature Range(C): -55 to 125; Type: Standard; Code_JEDEC: MS-012 variation AC; ComponentLink1Description: Manufacturer URL; ComponentLink1URL: http://www.ti.com/; ComponentLink2Description: Datasheet; ComponentLink2URL: http://www.ti.com/lit/ds/symlink/cd74act157.pdf; ComponentLink3Description: Package Specification; ComponentLink3URL: http://www.ti.com/lit/ml/mpds178g/mpds178g.pdf
footprint D0016A_N (SOIC, 16-Leads, Body 10x4mm, Pitch 1.27mm, IPC Medium Density)
footprint D0016A_M (SOIC, 16-Leads, Body 10x4mm, Pitch 1.27mm, IPC Low Density)
footprint D0016A_L (SOIC, 16-Leads, Body 10x4mm, Pitch 1.27mm, IPC High Density)
pins: 1 ~{A}/B (in), 2 1A (in), 3 1B (in), 4 1Y (out), 5 2A (in), 6 2B (in), 7 2Y (out), 8 GND (power), 9 3Y (out), 10 3B (in), 11 3A (in), 12 4Y (out), 13 4B (in), 14 4A (in), 15 ~{G} (in), 16 VCC (power)

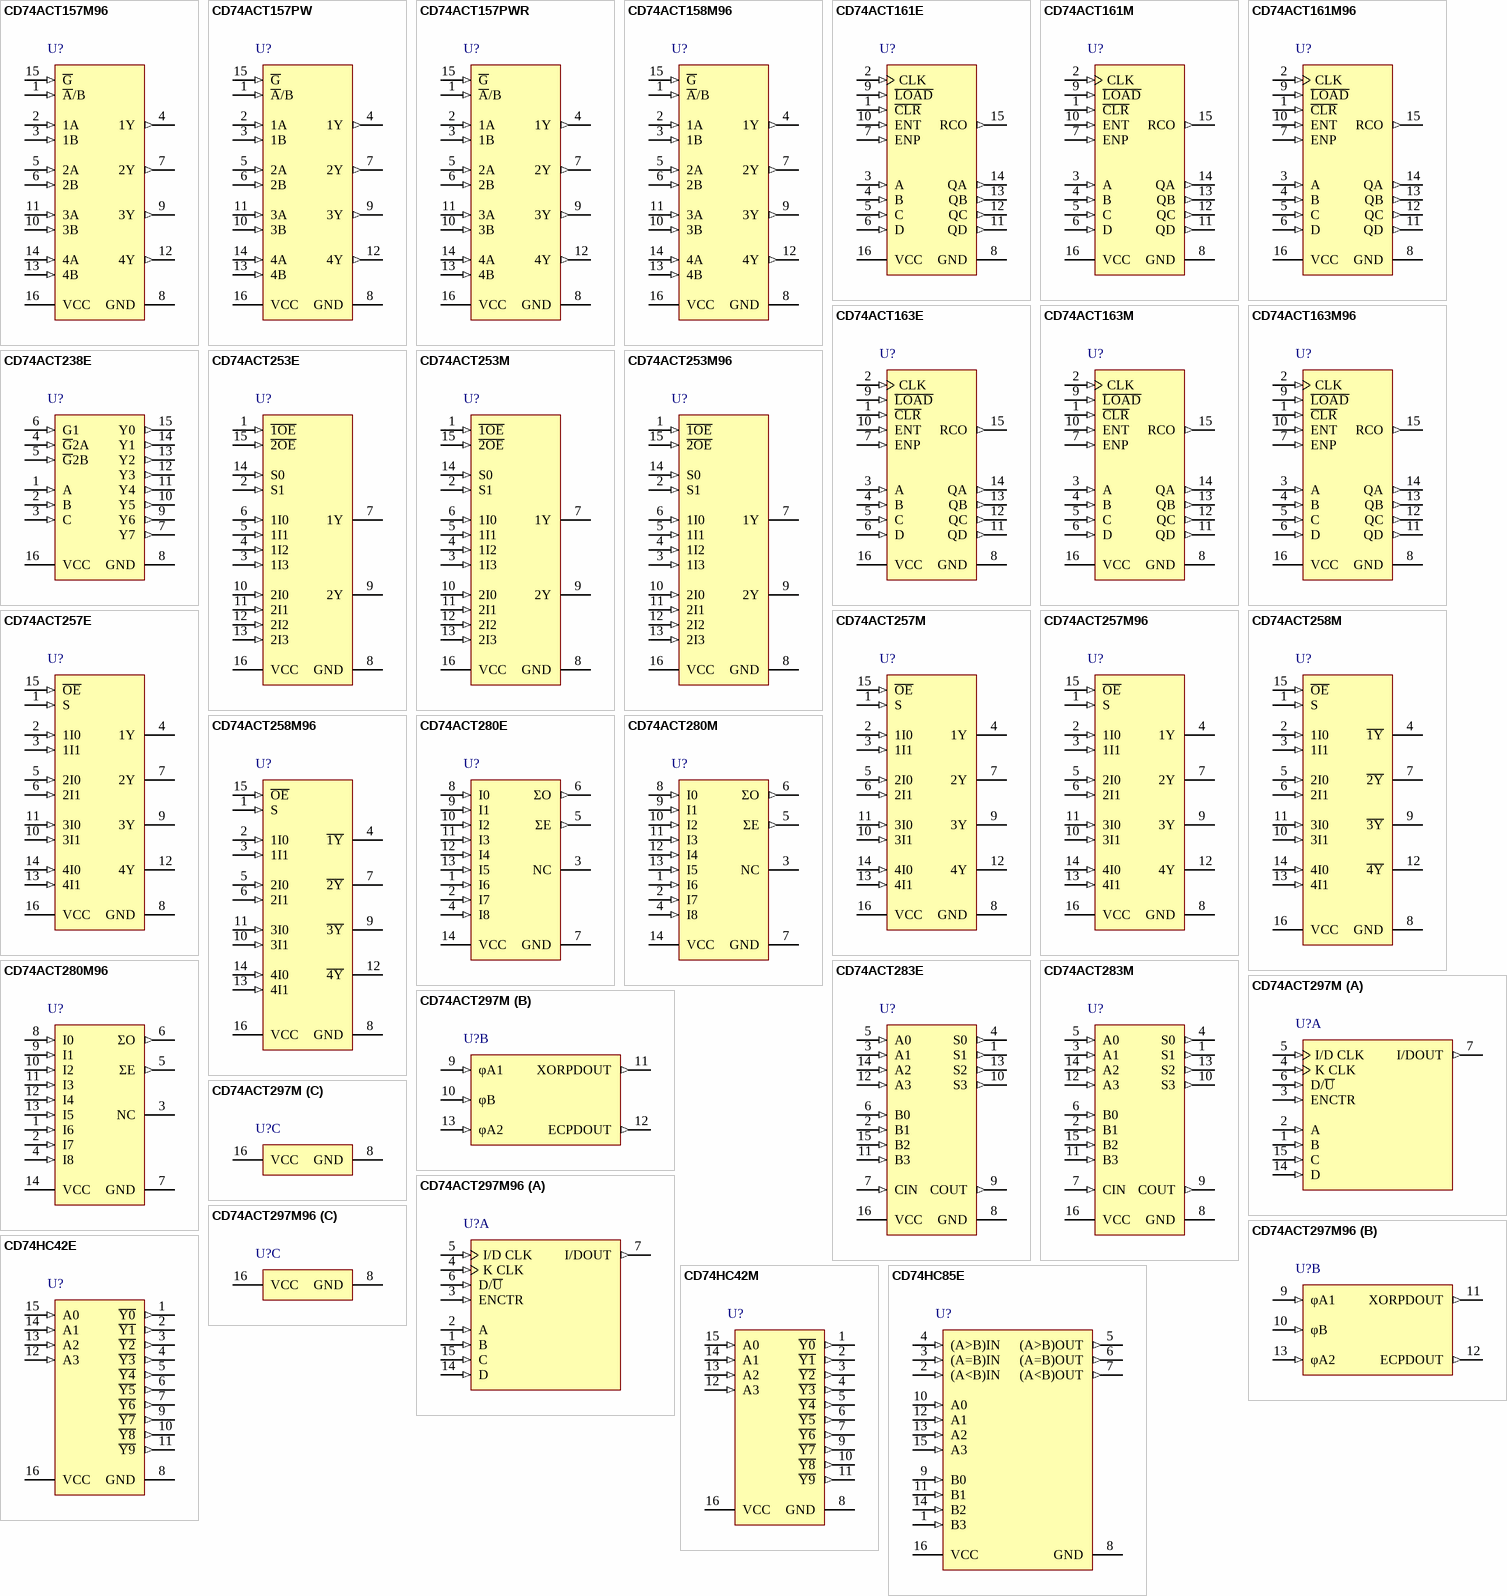
[diagram p8: symbols CD74ACT157M96 to CD74HC85E]

## CD74ACT157M96
designator U?
Quad Non-Inverting 2-Input Multiplexers, D0016A, LARGE T&R; Generic Part Number: CD74ACT157; Manufacturer: Texas Instruments; PartNumber: CD74ACT157M96; VCC(Min)(V): 4.5; VCC(Max)(V): 5.5; Output Type: CMOS; Function: Encoder/Multiplexer; ICC @ Nom Voltage(Max)(mA): 0.08; Input Type: TTL; Bits(#): 2; F @ Nom Voltage(Max)(Mhz): 90; Configuration: 2：1; Channels(#): 4; Rating: Catalog; Technology Family: ACT; Voltage(Nom)(V): 5; Schmitt Trigger: No; Output Drive (IOL/IOH)(Max)(mA): 24/-24; tpd @ Nom Voltage(Max)(ns): 8.6; DatasheetVersion: SCHS340B; PackageReference: D0016A; Supplier 1: Mouser; Supplier Part Number 1: 595-CD74ACT157M96; Supplier 2: Digi-Key; Supplier Part Number 2: 296-38062-2-ND; Supplier 3: Digi-Key; Supplier Part Number 3: 296-38062-1-ND; Supplier 4: Digi-Key; Supplier Part Number 4: 296-38062-6-ND; Operating Temperature Range(C): -55 to 125; Type: Standard; Code_JEDEC: MS-012 variation AC; ComponentLink1Description: Manufacturer URL; ComponentLink1URL: http://www.ti.com/; ComponentLink2Description: Datasheet; ComponentLink2URL: http://www.ti.com/lit/ds/symlink/cd74act157.pdf; ComponentLink3Description: Package Specification; ComponentLink3URL: http://www.ti.com/lit/ml/mpds178g/mpds178g.pdf
footprint D0016A_N (SOIC, 16-Leads, Body 10x4mm, Pitch 1.27mm, IPC Medium Density)
footprint D0016A_M (SOIC, 16-Leads, Body 10x4mm, Pitch 1.27mm, IPC Low Density)
footprint D0016A_L (SOIC, 16-Leads, Body 10x4mm, Pitch 1.27mm, IPC High Density)
pins: 1 ~{A}/B (in), 2 1A (in), 3 1B (in), 4 1Y (out), 5 2A (in), 6 2B (in), 7 2Y (out), 8 GND (power), 9 3Y (out), 10 3B (in), 11 3A (in), 12 4Y (out), 13 4B (in), 14 4A (in), 15 ~{G} (in), 16 VCC (power)

## CD74ACT157PW
designator U?
Quad Non-Inverting 2-Input Multiplexers, PW0016A, TUBE; Generic Part Number: CD74ACT157; Manufacturer: Texas Instruments; PartNumber: CD74ACT157PW; VCC(Min)(V): 4.5; VCC(Max)(V): 5.5; Output Type: CMOS; Function: Encoder/Multiplexer; ICC @ Nom Voltage(Max)(mA): 0.08; Input Type: TTL; Bits(#): 2; F @ Nom Voltage(Max)(Mhz): 90; Configuration: 2：1; Channels(#): 4; Rating: Catalog; Technology Family: ACT; Voltage(Nom)(V): 5; Schmitt Trigger: No; Output Drive (IOL/IOH)(Max)(mA): 24/-24; tpd @ Nom Voltage(Max)(ns): 8.6; DatasheetVersion: SCHS340B; PackageReference: PW0016A; Supplier 1: Mouser; Supplier Part Number 1: 595-CD74ACT157PW; Supplier 2: Digi-Key; Supplier Part Number 2: CD74ACT157PW-ND; Operating Temperature Range(C): -55 to 125; Type: Standard; Code_JEDEC: MO-153; ComponentLink1Description: Manufacturer URL; ComponentLink1URL: http://www.ti.com/; ComponentLink2Description: Datasheet; ComponentLink2URL: http://www.ti.com/lit/ds/symlink/cd74act157.pdf; ComponentLink3Description: Package Specification; ComponentLink3URL: http://www.ti.com/lit/ml/mpds361/mpds361.pdf
footprint PW0016A_N (SOP, 16-Leads, Body 5.1x4.5mm, Pitch 0.65mm, IPC Medium Density)
footprint PW0016A_M (SOP, 16-Leads, Body 5.1x4.5mm, Pitch 0.65mm, IPC Low Density)
footprint PW0016A_L (SOP, 16-Leads, Body 5.1x4.5mm, Pitch 0.65mm, IPC High Density)
pins: 1 ~{A}/B (in), 2 1A (in), 3 1B (in), 4 1Y (out), 5 2A (in), 6 2B (in), 7 2Y (out), 8 GND (power), 9 3Y (out), 10 3B (in), 11 3A (in), 12 4Y (out), 13 4B (in), 14 4A (in), 15 ~{G} (in), 16 VCC (power)

## CD74ACT157PWR
designator U?
Quad Non-Inverting 2-Input Multiplexers, PW0016A, LARGE T&R; Generic Part Number: CD74ACT157; Manufacturer: Texas Instruments; PartNumber: CD74ACT157PWR; VCC(Min)(V): 4.5; VCC(Max)(V): 5.5; Output Type: CMOS; Function: Encoder/Multiplexer; ICC @ Nom Voltage(Max)(mA): 0.08; Input Type: TTL; Bits(#): 2; F @ Nom Voltage(Max)(Mhz): 90; Configuration: 2：1; Channels(#): 4; Rating: Catalog; Technology Family: ACT; Voltage(Nom)(V): 5; Schmitt Trigger: No; Output Drive (IOL/IOH)(Max)(mA): 24/-24; tpd @ Nom Voltage(Max)(ns): 8.6; DatasheetVersion: SCHS340B; PackageReference: PW0016A; Supplier 1: Mouser; Supplier Part Number 1: 595-CD74ACT157PWR; Supplier 2: Digi-Key; Supplier Part Number 2: 296-15079-2-ND; Supplier 3: Digi-Key; Supplier Part Number 3: 296-15079-1-ND; Supplier 4: Digi-Key; Supplier Part Number 4: 296-15079-6-ND; Operating Temperature Range(C): -55 to 125; Type: Standard; Code_JEDEC: MO-153; ComponentLink1Description: Manufacturer URL; ComponentLink1URL: http://www.ti.com/; ComponentLink2Description: Datasheet; ComponentLink2URL: http://www.ti.com/lit/ds/symlink/cd74act157.pdf; ComponentLink3Description: Package Specification; ComponentLink3URL: http://www.ti.com/lit/ml/mpds361/mpds361.pdf
footprint PW0016A_N (SOP, 16-Leads, Body 5.1x4.5mm, Pitch 0.65mm, IPC Medium Density)
footprint PW0016A_M (SOP, 16-Leads, Body 5.1x4.5mm, Pitch 0.65mm, IPC Low Density)
footprint PW0016A_L (SOP, 16-Leads, Body 5.1x4.5mm, Pitch 0.65mm, IPC High Density)
pins: 1 ~{A}/B (in), 2 1A (in), 3 1B (in), 4 1Y (out), 5 2A (in), 6 2B (in), 7 2Y (out), 8 GND (power), 9 3Y (out), 10 3B (in), 11 3A (in), 12 4Y (out), 13 4B (in), 14 4A (in), 15 ~{G} (in), 16 VCC (power)

## CD74ACT158M96
designator U?
Quad Inverting 2-Input Multiplexers, D0016A, LARGE T&R; Generic Part Number: CD74ACT158; Manufacturer: Texas Instruments; PartNumber: CD74ACT158M96; VCC(Min)(V): 4.5; VCC(Max)(V): 5.5; Output Type: CMOS; Function: Encoder/Multiplexer; ICC @ Nom Voltage(Max)(mA): 0.08; Input Type: TTL; Bits(#): 4; F @ Nom Voltage(Max)(Mhz): 90; Configuration: 2：1; Rating: Catalog; Technology Family: ACT; Voltage(Nom)(V): 5; Schmitt Trigger: No; Output Drive (IOL/IOH)(Max)(mA): 24/-24; tpd @ Nom Voltage(Max)(ns): 8.4; DatasheetVersion: SCHS341; PackageReference: D0016A; Supplier 1: Mouser; Supplier Part Number 1: 595-CD74ACT158M96; Supplier 2: Digi-Key; Supplier Part Number 2: 296-4262-2-ND; Supplier 3: Digi-Key; Supplier Part Number 3: 296-4262-1-ND; Supplier 4: Digi-Key; Supplier Part Number 4: 296-4262-6-ND; Operating Temperature Range(C): -55 to 125; Type: Standard; Channels(#): 4; Code_JEDEC: MS-012 variation AC; ComponentLink1Description: Manufacturer URL; ComponentLink1URL: http://www.ti.com/; ComponentLink2Description: Datasheet; ComponentLink2URL: http://www.ti.com/lit/ds/symlink/cd74act158.pdf; ComponentLink3Description: Package Specification; ComponentLink3URL: http://www.ti.com/lit/ml/mpds178g/mpds178g.pdf
footprint D0016A_N (SOIC, 16-Leads, Body 10x4mm, Pitch 1.27mm, IPC Medium Density)
footprint D0016A_M (SOIC, 16-Leads, Body 10x4mm, Pitch 1.27mm, IPC Low Density)
footprint D0016A_L (SOIC, 16-Leads, Body 10x4mm, Pitch 1.27mm, IPC High Density)
pins: 1 ~{A}/B (in), 2 1A (in), 3 1B (in), 4 1Y (out), 5 2A (in), 6 2B (in), 7 2Y (out), 8 GND (power), 9 3Y (out), 10 3B (in), 11 3A (in), 12 4Y (out), 13 4B (in), 14 4A (in), 15 ~{G} (in), 16 VCC (power)

## CD74ACT161E
designator U?
Synchronous Presettable Binary Counters with Asynchronous Reset, N0016A, TUBE; Generic Part Number: CD74ACT161; Manufacturer: Texas Instruments; PartNumber: CD74ACT161E; VCC(Min)(V): 4.5; VCC(Max)(V): 5.5; Output Type: CMOS; Inputs: 4; ICC @ Nom Voltage(Max)(mA): 0.08; Input Type: TTL; F @ Nom Voltage(Max)(Mhz): 90; Rating: Catalog; Technology Family: ACT; Voltage(Nom)(V): 5; Schmitt Trigger: No; Output Drive (IOL/IOH)(Max)(mA): 24/-24; tpd @ Nom Voltage(Max)(ns): 15; DatasheetVersion: SCHS298B; PackageReference: N0016A; Supplier 1: Mouser; Supplier Part Number 1: 595-CD74ACT161E; Supplier 2: Digi-Key; Supplier Part Number 2: 296-32982-5-ND; Function: Counter; Bits(#): 4; Operating Temperature Range(C): -55 to 125; Type: Binary; Code_JEDEC: MS-001; ComponentLink1Description: Manufacturer URL; ComponentLink1URL: http://www.ti.com/; ComponentLink2Description: Datasheet; ComponentLink2URL: http://www.ti.com/lit/ds/symlink/cd74act161.pdf; ComponentLink3Description: Package Specification; ComponentLink3URL: http://www.ti.com/lit/ml/mpdi002c/mpdi002c.pdf
footprint N0016A (DIP, 16-Leads, Body 19.7x6.6mm, Pitch 2.54mm)
pins: 1 ~{CLR} (in), 2 CLK (in), 3 A (in), 4 B (in), 5 C (in), 6 D (in), 7 ENP (in), 8 GND (power), 9 ~{LOAD} (in), 10 ENT (in), 11 QD (out), 12 QC (out), 13 QB (out), 14 QA (out), 15 RCO (out), 16 VCC (power)

## CD74ACT161M
designator U?
Synchronous Presettable Binary Counters with Asynchronous Reset, D0016A, TUBE; Generic Part Number: CD74ACT161; Manufacturer: Texas Instruments; PartNumber: CD74ACT161M; VCC(Min)(V): 4.5; VCC(Max)(V): 5.5; Output Type: CMOS; Inputs: 4; ICC @ Nom Voltage(Max)(mA): 0.08; Input Type: TTL; F @ Nom Voltage(Max)(Mhz): 90; Rating: Catalog; Technology Family: ACT; Voltage(Nom)(V): 5; Schmitt Trigger: No; Output Drive (IOL/IOH)(Max)(mA): 24/-24; tpd @ Nom Voltage(Max)(ns): 15; DatasheetVersion: SCHS298B; PackageReference: D0016A; Supplier 1: Mouser; Supplier Part Number 1: 595-CD74ACT161M; Supplier 2: Digi-Key; Supplier Part Number 2: 296-4263-5-ND; Function: Counter; Bits(#): 4; Operating Temperature Range(C): -55 to 125; Type: Binary; Code_JEDEC: MS-012 variation AC; ComponentLink1Description: Manufacturer URL; ComponentLink1URL: http://www.ti.com/; ComponentLink2Description: Datasheet; ComponentLink2URL: http://www.ti.com/lit/ds/symlink/cd74act161.pdf; ComponentLink3Description: Package Specification; ComponentLink3URL: http://www.ti.com/lit/ml/mpds178g/mpds178g.pdf
footprint D0016A_N (SOIC, 16-Leads, Body 10x4mm, Pitch 1.27mm, IPC Medium Density)
footprint D0016A_M (SOIC, 16-Leads, Body 10x4mm, Pitch 1.27mm, IPC Low Density)
footprint D0016A_L (SOIC, 16-Leads, Body 10x4mm, Pitch 1.27mm, IPC High Density)
pins: 1 ~{CLR} (in), 2 CLK (in), 3 A (in), 4 B (in), 5 C (in), 6 D (in), 7 ENP (in), 8 GND (power), 9 ~{LOAD} (in), 10 ENT (in), 11 QD (out), 12 QC (out), 13 QB (out), 14 QA (out), 15 RCO (out), 16 VCC (power)

## CD74ACT161M96
designator U?
Synchronous Presettable Binary Counters with Asynchronous Reset, D0016A, LARGE T&R; Generic Part Number: CD74ACT161; Manufacturer: Texas Instruments; PartNumber: CD74ACT161M96; VCC(Min)(V): 4.5; VCC(Max)(V): 5.5; Output Type: CMOS; Inputs: 4; ICC @ Nom Voltage(Max)(mA): 0.08; Input Type: TTL; F @ Nom Voltage(Max)(Mhz): 90; Rating: Catalog; Technology Family: ACT; Voltage(Nom)(V): 5; Schmitt Trigger: No; Output Drive (IOL/IOH)(Max)(mA): 24/-24; tpd @ Nom Voltage(Max)(ns): 15; DatasheetVersion: SCHS298B; PackageReference: D0016A; Supplier 1: Mouser; Supplier Part Number 1: 595-CD74ACT161M96; Supplier 2: Digi-Key; Supplier Part Number 2: 296-31551-2-ND; Supplier 3: Digi-Key; Supplier Part Number 3: 296-31551-1-ND; Supplier 4: Digi-Key; Supplier Part Number 4: 296-31551-6-ND; Function: Counter; Bits(#): 4; Operating Temperature Range(C): -55 to 125; Type: Binary; Code_JEDEC: MS-012 variation AC; ComponentLink1Description: Manufacturer URL; ComponentLink1URL: http://www.ti.com/; ComponentLink2Description: Datasheet; ComponentLink2URL: http://www.ti.com/lit/ds/symlink/cd74act161.pdf; ComponentLink3Description: Package Specification; ComponentLink3URL: http://www.ti.com/lit/ml/mpds178g/mpds178g.pdf
footprint D0016A_N (SOIC, 16-Leads, Body 10x4mm, Pitch 1.27mm, IPC Medium Density)
footprint D0016A_M (SOIC, 16-Leads, Body 10x4mm, Pitch 1.27mm, IPC Low Density)
footprint D0016A_L (SOIC, 16-Leads, Body 10x4mm, Pitch 1.27mm, IPC High Density)
pins: 1 ~{CLR} (in), 2 CLK (in), 3 A (in), 4 B (in), 5 C (in), 6 D (in), 7 ENP (in), 8 GND (power), 9 ~{LOAD} (in), 10 ENT (in), 11 QD (out), 12 QC (out), 13 QB (out), 14 QA (out), 15 RCO (out), 16 VCC (power)

## CD74ACT163E
designator U?
Synchronous Presettable Binary Counters with Synchronous Reset, N0016A, TUBE; Generic Part Number: CD74ACT163; Manufacturer: Texas Instruments; PartNumber: CD74ACT163E; VCC(Min)(V): 4.5; VCC(Max)(V): 5.5; Output Type: CMOS; Inputs: 4; ICC @ Nom Voltage(Max)(mA): 0.08; Input Type: TTL; F @ Nom Voltage(Max)(Mhz): 90; Rating: Catalog; Technology Family: ACT; Voltage(Nom)(V): 5; Schmitt Trigger: No; Output Drive (IOL/IOH)(Max)(mA): 24/-24; tpd @ Nom Voltage(Max)(ns): 15; DatasheetVersion: SCHS300B; PackageReference: N0016A; Supplier 1: Mouser; Supplier Part Number 1: 595-CD74ACT163E; Supplier 2: Digi-Key; Supplier Part Number 2: 296-32983-5-ND; Function: Counter; Bits(#): 4; Operating Temperature Range(C): -55 to 125; Type: Binary; Code_JEDEC: MS-001; ComponentLink1Description: Manufacturer URL; ComponentLink1URL: http://www.ti.com/; ComponentLink2Description: Datasheet; ComponentLink2URL: http://www.ti.com/lit/ds/symlink/cd74act163.pdf; ComponentLink3Description: Package Specification; ComponentLink3URL: http://www.ti.com/lit/ml/mpdi002c/mpdi002c.pdf
footprint N0016A (DIP, 16-Leads, Body 19.7x6.6mm, Pitch 2.54mm)
pins: 1 ~{CLR} (in), 2 CLK (in), 3 A (in), 4 B (in), 5 C (in), 6 D (in), 7 ENP (in), 8 GND (power), 9 ~{LOAD} (in), 10 ENT (in), 11 QD (out), 12 QC (out), 13 QB (out), 14 QA (out), 15 RCO (out), 16 VCC (power)

## CD74ACT163M
designator U?
Synchronous Presettable Binary Counters with Synchronous Reset, D0016A, TUBE; Generic Part Number: CD74ACT163; Manufacturer: Texas Instruments; PartNumber: CD74ACT163M; VCC(Min)(V): 4.5; VCC(Max)(V): 5.5; Output Type: CMOS; Inputs: 4; ICC @ Nom Voltage(Max)(mA): 0.08; Input Type: TTL; F @ Nom Voltage(Max)(Mhz): 90; Rating: Catalog; Technology Family: ACT; Voltage(Nom)(V): 5; Schmitt Trigger: No; Output Drive (IOL/IOH)(Max)(mA): 24/-24; tpd @ Nom Voltage(Max)(ns): 15; DatasheetVersion: SCHS300B; PackageReference: D0016A; Supplier 1: Mouser; Supplier Part Number 1: 595-CD74ACT163M; Supplier 2: Digi-Key; Supplier Part Number 2: 296-4264-5-ND; Function: Counter; Bits(#): 4; Operating Temperature Range(C): -55 to 125; Type: Binary; Code_JEDEC: MS-012 variation AC; ComponentLink1Description: Manufacturer URL; ComponentLink1URL: http://www.ti.com/; ComponentLink2Description: Datasheet; ComponentLink2URL: http://www.ti.com/lit/ds/symlink/cd74act163.pdf; ComponentLink3Description: Package Specification; ComponentLink3URL: http://www.ti.com/lit/ml/mpds178g/mpds178g.pdf
footprint D0016A_N (SOIC, 16-Leads, Body 10x4mm, Pitch 1.27mm, IPC Medium Density)
footprint D0016A_M (SOIC, 16-Leads, Body 10x4mm, Pitch 1.27mm, IPC Low Density)
footprint D0016A_L (SOIC, 16-Leads, Body 10x4mm, Pitch 1.27mm, IPC High Density)
pins: 1 ~{CLR} (in), 2 CLK (in), 3 A (in), 4 B (in), 5 C (in), 6 D (in), 7 ENP (in), 8 GND (power), 9 ~{LOAD} (in), 10 ENT (in), 11 QD (out), 12 QC (out), 13 QB (out), 14 QA (out), 15 RCO (out), 16 VCC (power)

## CD74ACT163M96
designator U?
Synchronous Presettable Binary Counters with Synchronous Reset, D0016A, LARGE T&R; Generic Part Number: CD74ACT163; Manufacturer: Texas Instruments; PartNumber: CD74ACT163M96; VCC(Min)(V): 4.5; VCC(Max)(V): 5.5; Output Type: CMOS; Inputs: 4; ICC @ Nom Voltage(Max)(mA): 0.08; Input Type: TTL; F @ Nom Voltage(Max)(Mhz): 90; Rating: Catalog; Technology Family: ACT; Voltage(Nom)(V): 5; Schmitt Trigger: No; Output Drive (IOL/IOH)(Max)(mA): 24/-24; tpd @ Nom Voltage(Max)(ns): 15; DatasheetVersion: SCHS300B; PackageReference: D0016A; Supplier 1: Mouser; Supplier Part Number 1: 595-CD74ACT163M96; Supplier 2: Digi-Key; Supplier Part Number 2: 296-31552-2-ND; Supplier 3: Digi-Key; Supplier Part Number 3: 296-31552-1-ND; Supplier 4: Digi-Key; Supplier Part Number 4: 296-31552-6-ND; Function: Counter; Bits(#): 4; Operating Temperature Range(C): -55 to 125; Type: Binary; Code_JEDEC: MS-012 variation AC; ComponentLink1Description: Manufacturer URL; ComponentLink1URL: http://www.ti.com/; ComponentLink2Description: Datasheet; ComponentLink2URL: http://www.ti.com/lit/ds/symlink/cd74act163.pdf; ComponentLink3Description: Package Specification; ComponentLink3URL: http://www.ti.com/lit/ml/mpds178g/mpds178g.pdf
footprint D0016A_N (SOIC, 16-Leads, Body 10x4mm, Pitch 1.27mm, IPC Medium Density)
footprint D0016A_M (SOIC, 16-Leads, Body 10x4mm, Pitch 1.27mm, IPC Low Density)
footprint D0016A_L (SOIC, 16-Leads, Body 10x4mm, Pitch 1.27mm, IPC High Density)
pins: 1 ~{CLR} (in), 2 CLK (in), 3 A (in), 4 B (in), 5 C (in), 6 D (in), 7 ENP (in), 8 GND (power), 9 ~{LOAD} (in), 10 ENT (in), 11 QD (out), 12 QC (out), 13 QB (out), 14 QA (out), 15 RCO (out), 16 VCC (power)

## CD74ACT238E
designator U?
3-Line to 8-Line Non-Inverting Decoder/Demultiplexer, N0016A, TUBE; Generic Part Number: CD74ACT238; Manufacturer: Texas Instruments; PartNumber: CD74ACT238E; VCC(Min)(V): 4.5; VCC(Max)(V): 5.5; Output Type: CMOS; ICC @ Nom Voltage(Max)(mA): 0.08; Input Type: TTL; Bits(#): 8; F @ Nom Voltage(Max)(Mhz): 90; Configuration: 3：8; Channels(#): 1; Rating: Catalog; Technology Family: ACT; Voltage(Nom)(V): 5; Schmitt Trigger: No; Output Drive (IOL/IOH)(Max)(mA): 24/-24; tpd @ Nom Voltage(Max)(ns): 14.2; DatasheetVersion: SCHS330; PackageReference: N0016A; Supplier 1: Mouser; Supplier Part Number 1: 595-CD74ACT238E; Supplier 2: Digi-Key; Supplier Part Number 2: 296-32988-5-ND; Function: Decoder/Demultiplexer; Operating Temperature Range(C): -55 to 125; Type: Standard; Code_JEDEC: MS-001; ComponentLink1Description: Manufacturer URL; ComponentLink1URL: http://www.ti.com/; ComponentLink2Description: Datasheet; ComponentLink2URL: http://www.ti.com/lit/ds/symlink/cd74act238.pdf; ComponentLink3Description: Package Specification; ComponentLink3URL: http://www.ti.com/lit/ml/mpdi002c/mpdi002c.pdf
footprint N0016A (DIP, 16-Leads, Body 19.7x6.6mm, Pitch 2.54mm)
pins: 1 A (in), 2 B (in), 3 C (in), 4 ~{G}2A (in), 5 ~{G}2B (in), 6 G1 (in), 7 Y7 (out), 8 GND (power), 9 Y6 (out), 10 Y5 (out), 11 Y4 (out), 12 Y3 (out), 13 Y2 (out), 14 Y1 (out), 15 Y0 (out), 16 VCC (power)